# Altium schematic symbol library Connectors.SchLib: 3 symbols
Pins are listed as number, name and electrical type; pins without a type are passive.

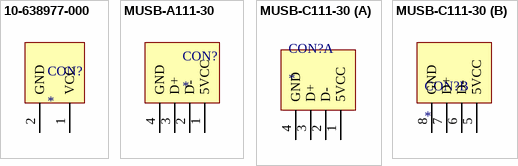
[diagram p0: symbols 10-638977-000 to MUSB-C111-30]

## 10-638977-000
designator CON?
Power Connector 70A rated
footprint 10-638977-000 (70A rated power connector Male PCB)
pins: 1 VCC, 2 GND

## MUSB-A111-30
designator CON?
CONN RCPT USB SGL STD R/A PCB; Digikey Part Number: MUSB-A111-30-ND
footprint MUSB-A111-30 (CONN RCPT USB SGL STD R/A PCB)
pins: 1 5VCC, 2 D-, 3 D+, 4 GND

## MUSB-C111-30
designator CON?
CONN RCPT USB STACK STD R/A PCB; Digikey Part Number: MUSB-C111-30-ND
footprint MUSB-C111-30 (CONN RCPT USB STACK STD R/A PCB)
part A pins: 1 5VCC, 2 D-, 3 D+, 4 GND
part B pins: 5 5VCC, 6 D-, 7 D+, 8 GND